# Altium schematic symbol library AP3032KTR-G1.SchLib: 1 symbol
Pins are listed as number, name and electrical type; pins without a type are passive.

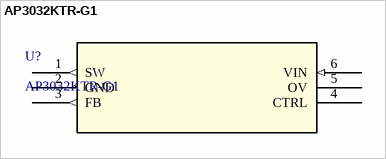
[diagram p0: symbol AP3032KTR-G1]

## AP3032KTR-G1
designator U?
Description; Manufacturer_Name: Diodes Inc; Copyright: Copyright (C) 2025 Ultra Librarian. All rights reserved.; Manufacturer_Part_Number: AP3032KTR-G1; RefDes: RefDes; Type: Type
footprint SOT23-6_DIO
pins: 1 SW (out), 2 GND (power), 3 FB (out), 4 CTRL, 5 OV, 6 VIN (in)